# EAGLE library part DDS,AD9958-9,DUAL-QUAD (library QuantumOptics)
AD9958/9 2/4-channel DDS, 500MSPS NB: Some pins show up as dual pins but are only one - had to overlay rectangle pads and rounded pads in corners to get 0.18mm clearance.
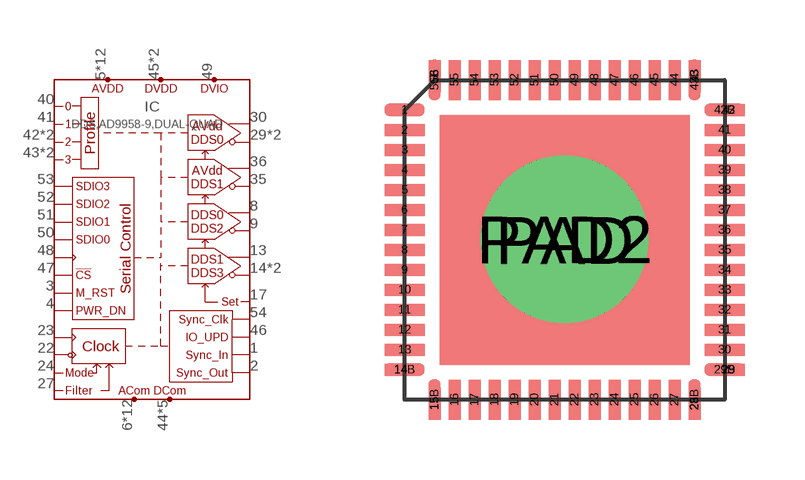
[diagram p191: symbol with the pads of LFCSP-56; footprint LFCSP-56]

Designator prefix IC

## DDS,AD9958-9,DUAL-QUAD-LFCSP-56  [LFCSP-56]
1  SYNC_IN  in
2  SYNC_OUT  out
3  MSTR_RST  in
4  PWRDN  in
5  AVDD
6  AGND
7  AVDD
8  CH-C  out
9  !CH-C  out
10  AGND
11  AVDD
12  AGND
13  CH-D  out
14  !CH-D  out
14B  !CH-D  out
15  AVDD
15B  AVDD
16  AGND
17  DAC_SET  in
18  AGND
19  AVDD
20  AGND
21  AVDD
22  !REFCLK  in
23  REFCLK  in
24  MODESEL  in
25  AGND
26  AVDD
27  LOOP_FIL  in
28  AGND
28B  AGND
29  !CH-A  out
29B  !CH-A  out
30  CH-A  out
31  AVDD
32  AGND
33  AVDD
34  AGND
35  !CH-B  out
36  CH-B  out
37  AVDD
38  AGND
39  AVDD
40  P0  in
41  P1  in
42  P2  in
42B  P2  in
43  P3  in
43B  P3  in
44  DGND
45  DVDD
46  IO_UPD  in
47  !CS  in
48  SCLK  in
49  DVIO
50  SDIO0
51  SDIO1
52  SDIO2
53  SDIO3
54  SYNC_CLK  out
55  DVDD
56  DGND
56B  DGND
PAD  DGND
PAD2  DGND

## Footprint LFCSP-56 (pad centres in mm)
LFCSP-56, Lead Frame Chip Scale Package with 56 pins.
smd 1 x 0.3: 1 -4,3.25; 2 -4,2.75; 3 -4,2.25; 4 -4,1.75; 5 -4,1.25; 6 -4,0.75; 7 -4,0.25; 8 -4,-0.25; 9 -4,-0.75; 10 -4,-1.25; 11 -4,-1.75; 12 -4,-2.25; 13 -4,-2.75; 14B -4,-3.25; 29B 4,-3.25; 30 4,-2.75; 31 4,-2.25; 32 4,-1.75; 33 4,-1.25; 34 4,-0.75; 35 4,-0.25; 36 4,0.25; 37 4,0.75; 38 4,1.25; 39 4,1.75; 40 4,2.25; 41 4,2.75; 42B 4,3.25
smd 0.8 x 0.3: 14 -4.1,-3.25; 29 4.1,-3.25; 42 4.1,3.25
smd 0.3 x 0.8: 15 -3.25,-4.1; 28 3.25,-4.1; 43 3.25,4.1; 56 -3.25,4.1
smd 0.3 x 1: 15B -3.25,-4; 16 -2.75,-4; 17 -2.25,-4; 18 -1.75,-4; 19 -1.25,-4; 20 -0.75,-4; 21 -0.25,-4; 22 0.25,-4; 23 0.75,-4; 24 1.25,-4; 25 1.75,-4; 26 2.25,-4; 27 2.75,-4; 28B 3.25,-4; 43B 3.25,4; 44 2.75,4; 45 2.25,4; 46 1.75,4; 47 1.25,4; 48 0.75,4; 49 0.25,4; 50 -0.25,4; 51 -0.75,4; 52 -1.25,4; 53 -1.75,4; 54 -2.25,4; 55 -2.75,4; 56B -3.25,4
smd 6.25 x 6.25: PAD 0,0
drill 3.175: PAD2 0,0.016